# Altium footprint library SM_C_6.3MM_8.7MM_tall.PcbLib: 1 footprints
Each footprint in its own frame and in the unit in brackets; x right, y up, seen from the top. Pads: shape width x height; smd on the part's side, far side on the other; paste and mask are expansions set on the pad; w line width, h text height; cw(c..) or ccw(c..) is an arc to the next point about the centre after c.
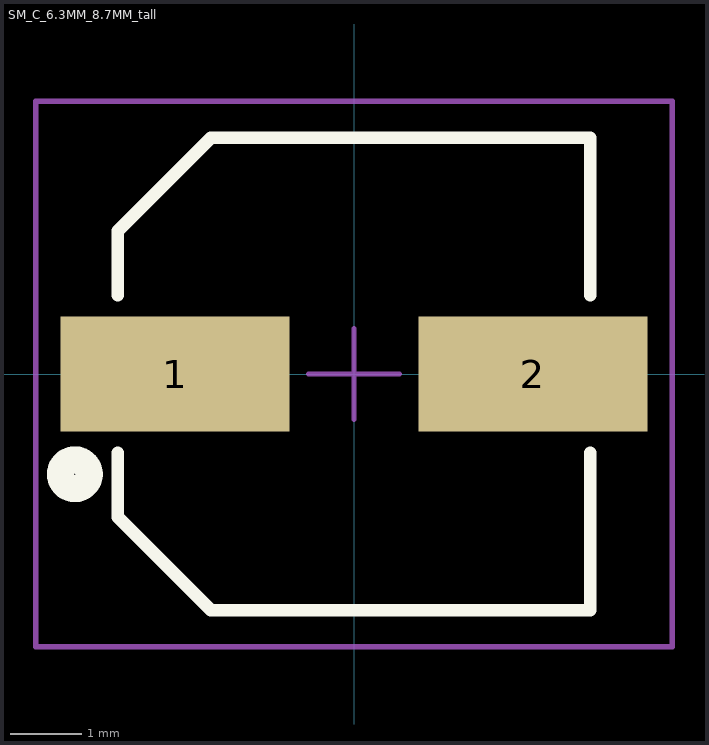
[diagram p0: the footprint, top view; thin cyan lines are the x and y axes]

## SM_C_6.3MM_8.7MM_tall [mm] "6.3mm Aluminum Capacitor"
pads (2):
  rect 3.2x1.6 smd: 1(-2.5,0) 2(2.5,0)
Top Overlay:
  circle w0.381: c-3.9,-1.4 r0.2
  lines w0.178: -3.3,-1.1 -3.3,-2 -2,-3.3 3.3,-3.3 3.3,-1.1 ; -3.3,1.1 -3.3,2 -2,3.3 3.3,3.3 3.3,1.1
Mechanical 15:
  lines w0.076: -0.635,0 0.635,0 ; 0,-0.635 0,0.635 ; -4.445,-3.81 4.445,-3.81 4.445,3.81 -4.445,3.81 -4.445,-3.81
3D body: height 8.7, standoff 0, extent -3.225,-3.203 3.175,3.19
3D body: height 0.5, standoff 0, extent -3.3,-3.3 3.3,3.3
3D body: height 8.71, standoff 8.7, extent 2.05,-2.45 3.1,2.45